# Altium integrated library XMOS xCORE General Purpose.IntLib: 46 symbols (part 2 of 4)
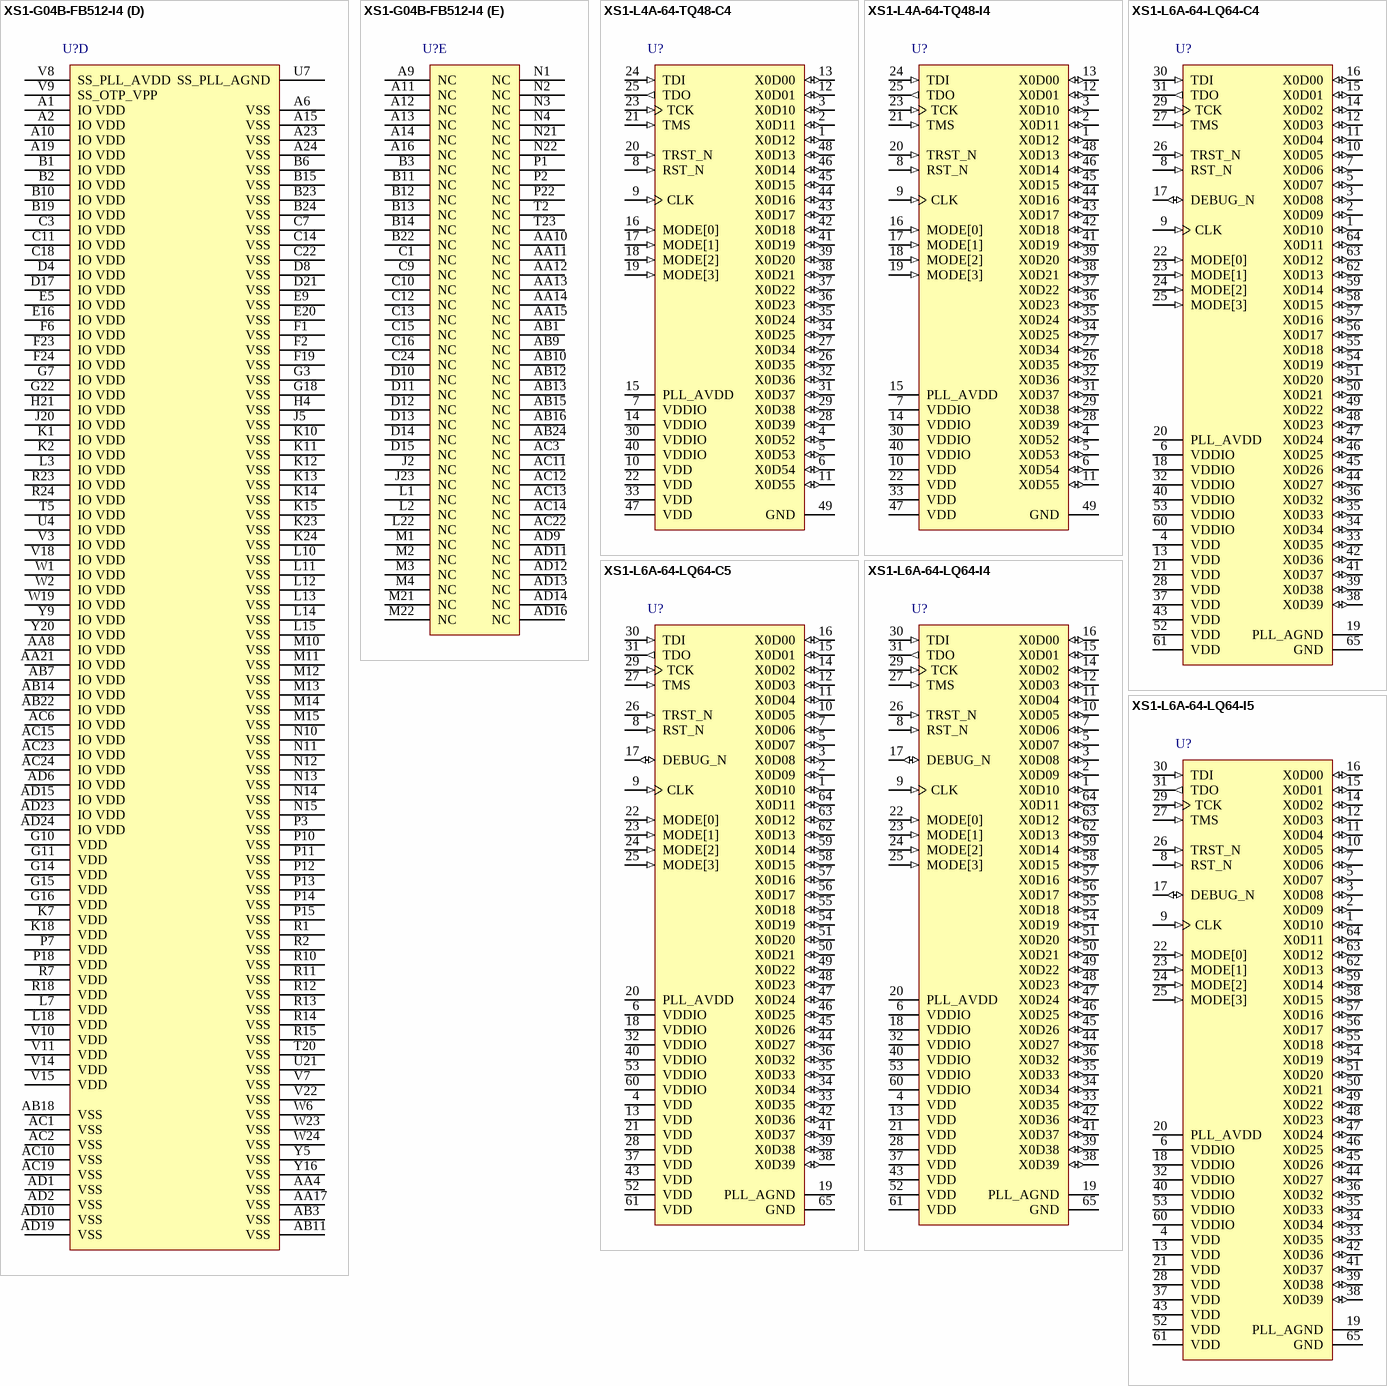
[diagram p11: symbols XS1-G04B-FB512-I4 to XS1-L6A-64-LQ64-I5]

## XS1-L6A-64-LQ64-I5
designator U?
6 Core XS1-L 32-bit Multicore Microcontroller, 36 I/O, -40 to 85 degC, 64-Pin LQFP, Pb-Free, Tray; PartNumber: XS1-L6A-64-LQ64-I5; Cores/Tiles: 6/1; I/O: 36; RAM: 64 kB; Speed Grade: 500 MIPS; DatasheetVersion: Rev. X9194; PackageReference: LQFP-64; PackageDescription: 64-Pin Low Profile Quad Flat Pack, Body 10 x 10 mm, Pitch 0.5 mm; Supplier 1: Digi-Key; Supplier Part Number 1: XS1-L6A-64-LQ64-I5-ND; Packing: Tray; Temperature Range: -40 to 85 degC; Mounting Technology: Surface Mount; Code_JEDEC: MS-026; ComponentLink1Description: Manufacturer URL; ComponentLink1URL: http://www.xmos.com/; ComponentLink2Description: Datasheet; ComponentLink2URL: https://www.xmos.com/zh/download/public/XS1-L6A-64-LQ64-Datasheet%28X9194F%29.pdf; ComponentLink3Description: Package Specification; ComponentLink3URL: https://www.xmos.com/zh/download/public/XS1-L6A-64-LQ64-Datasheet%28X9194F%29.pdf
footprint XMOS-LQFP-64_V (LQFP, 64-Leads, Body 10x10mm, Pitch 0.5mm, Thermal Pad 5.2x5.2mm)
pins: 1 X0D10 (io), 2 X0D09 (io), 3 X0D08 (io), 4 VDD (power) "Digital tile power", 5 X0D07 (io), 6 VDDIO (power) "Digital I/O power", 7 X0D06 (io), 8 RST_N (in) "Global reset input", 9 CLK (in) "PLL reference clock", 10 X0D05 (io), 11 X0D04 (io), 12 X0D03 (io), 13 VDD (power) "Digital tile power", 14 X0D02 (io), 15 X0D01 (io), 16 X0D00 (io), 17 DEBUG_N (io) "Multi-chip debug", 18 VDDIO (power) "Digital I/O power", 19 PLL_AGND (power) "Analog ground for PLL", 20 PLL_AVDD (power) "Analog PLL power", 21 VDD (power) "Digital tile power", 22 MODE[0] (in) "Boot mode select", 23 MODE[1] (in) "Boot mode select", 24 MODE[2] (in) "Boot mode select", 25 MODE[3] (in) "Boot mode select", 26 TRST_N (in) "Test reset input", 27 TMS (in) "Test mode select", 28 VDD (power) "Digital tile power", 29 TCK (in) "Test clock", 30 TDI (in) "Test data input", 31 TDO (out) "Test data output", 32 VDDIO (power) "Digital I/O power", 33 X0D35 (io), 34 X0D34 (io), 35 X0D33 (io), 36 X0D32 (io), 37 VDD (power) "Digital tile power", 38 X0D39 (io), 39 X0D38 (io), 40 VDDIO (power) "Digital I/O power", 41 X0D37 (io), 42 X0D36 (io), 43 VDD (power) "Digital tile power", 44 X0D27 (io), 45 X0D26 (io), 46 X0D25 (io), 47 X0D24 (io), 48 X0D23 (io), 49 X0D22 (io), 50 X0D21 (io), 51 X0D20 (io), 52 VDD (power) "Digital tile power", 53 VDDIO (power) "Digital I/O power", 54 X0D19 (io), 55 X0D18 (io), 56 X0D17 (io), 57 X0D16 (io), 58 X0D15 (io), 59 X0D14 (io), 60 VDDIO (power) "Digital I/O power", 61 VDD (power) "Digital tile power", 62 X0D13 (io), 63 X0D12 (io), 64 X0D11 (io), 65 GND (power) "Digital ground"

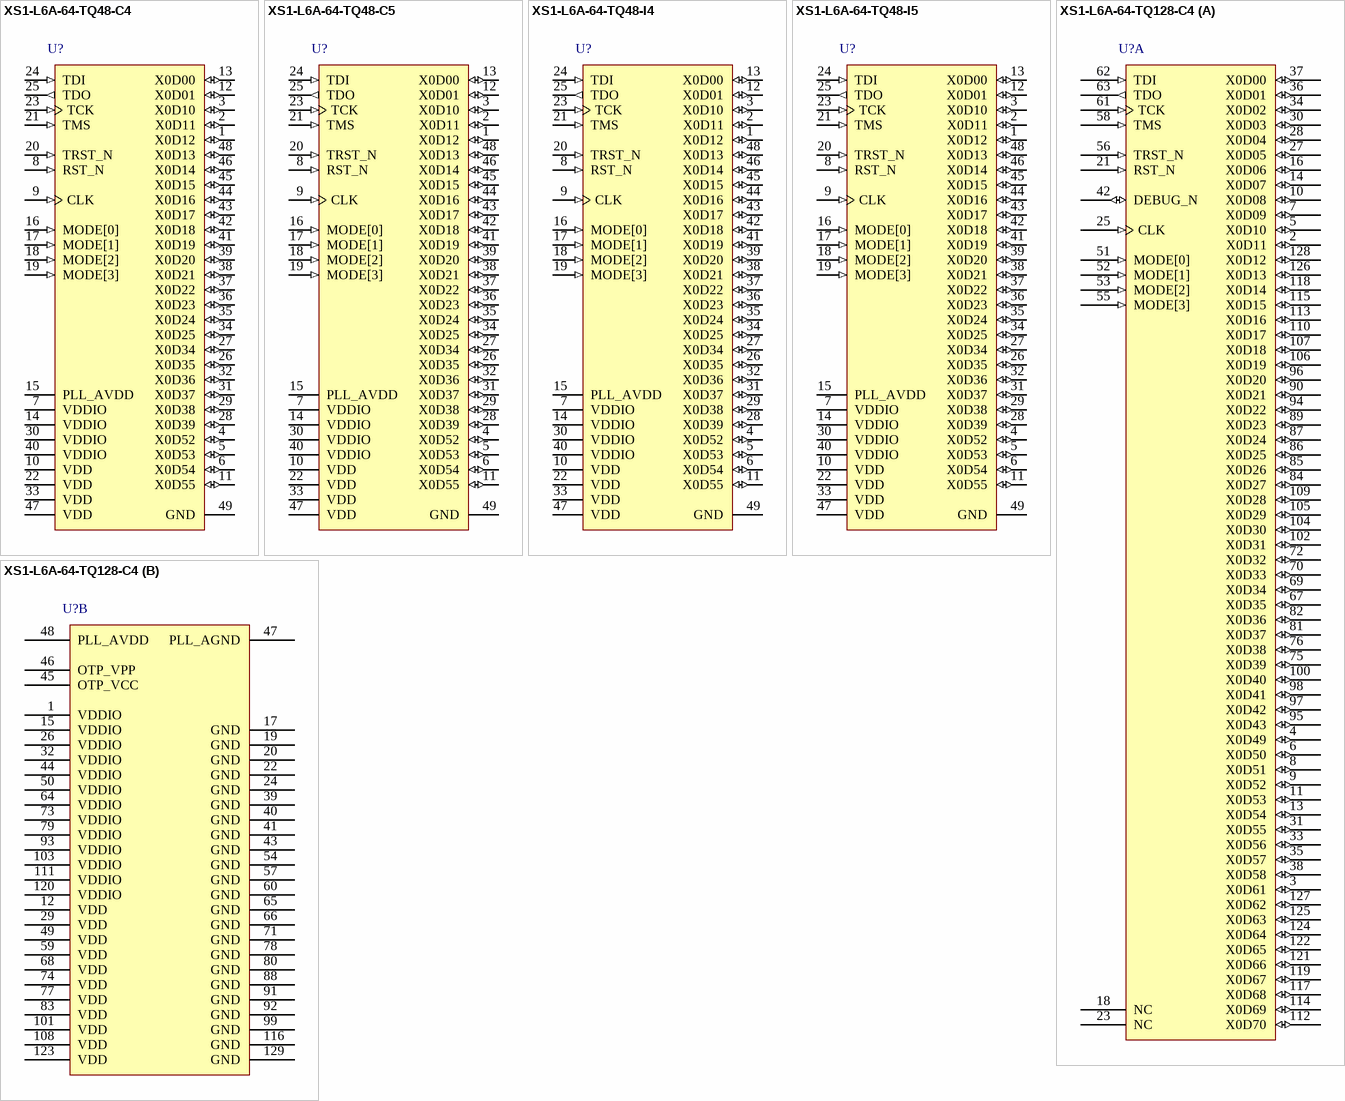
[diagram p3: symbols XS1-L6A-64-TQ48-C4 to XS1-L6A-64-TQ128-C4]

## XS1-L6A-64-TQ48-C4
designator U?
6 Core XS1-L 32-bit Multicore Microcontroller, 28 I/O, 0 to 70 degC, 48-Pin TQFP, Pb-Free, Tray; PartNumber: XS1-L6A-64-TQ48-C4; Cores/Tiles: 6/1; I/O: 28; RAM: 64 kB; Speed Grade: 400 MIPS; DatasheetVersion: Rev. X8938; PackageReference: TQFP-48; PackageDescription: 48-Pin Thin Quad Flat Pack, Body 7 x 7 mm, Pitch 0.5 mm; Supplier 1: Digi-Key; Supplier Part Number 1: 880-1055-ND; Packing: Tray; Temperature Range: 0 to 70 degC; Mounting Technology: Surface Mount; Code_JEDEC: MS-026; ComponentLink1Description: Manufacturer URL; ComponentLink1URL: http://www.xmos.com/; ComponentLink2Description: Datasheet; ComponentLink2URL: https://www.xmos.com/zh/download/public/XS1-L6A-64-TQ48-Datasheet%28X8938F%29.pdf; ComponentLink3Description: Package Specification; ComponentLink3URL: https://www.xmos.com/en/download/public/XS1-L8A-64-TQ48-Datasheet%28X9681G%29.pdf
footprint XMOS-TQFP-48_V (TQFP, 48-Leads, Body 7x7mm, Pitch 0.5mm, Thermal Pad 3.75x3.75mm)
pins: 1 X0D12 (io), 2 X0D11 (io), 3 X0D10 (io), 4 X0D52 (io), 5 X0D53 (io), 6 X0D54 (io), 7 VDDIO (power) "Digital I/O power", 8 RST_N (in) "Global reset input", 9 CLK (in) "PLL reference clock", 10 VDD (power) "Digital tile power", 11 X0D55 (io), 12 X0D01 (io), 13 X0D00 (io), 14 VDDIO (power) "Digital I/O power", 15 PLL_AVDD (power) "Analog PLL power", 16 MODE[0] (in) "Boot mode select", 17 MODE[1] (in) "Boot mode select", 18 MODE[2] (in) "Boot mode select", 19 MODE[3] (in) "Boot mode select", 20 TRST_N (in) "Test reset input", 21 TMS (in) "Test mode select", 22 VDD (power) "Digital tile power", 23 TCK (in) "Test clock", 24 TDI (in) "Test data input", 25 TDO (out) "Test data output", 26 X0D35 (io), 27 X0D34 (io), 28 X0D39 (io), 29 X0D38 (io), 30 VDDIO (power) "Digital I/O power", 31 X0D37 (io), 32 X0D36 (io), 33 VDD (power) "Digital tile power", 34 X0D25 (io), 35 X0D24 (io), 36 X0D23 (io), 37 X0D22 (io), 38 X0D21 (io), 39 X0D20 (io), 40 VDDIO (power) "Digital I/O power", 41 X0D19 (io), 42 X0D18 (io), 43 X0D17 (io), 44 X0D16 (io), 45 X0D15 (io), 46 X0D14 (io), 47 VDD (power) "Digital tile power", 48 X0D13 (io), 49 GND (power) "Digital ground"

## XS1-L6A-64-TQ48-C5
designator U?
6 Core XS1-L 32-bit Multicore Microcontroller, 28 I/O, 0 to 70 degC, 48-Pin TQFP, Pb-Free, Tray; PartNumber: XS1-L6A-64-TQ48-C5; Cores/Tiles: 6/1; I/O: 28; RAM: 64 kB; Speed Grade: 500 MIPS; DatasheetVersion: Rev. X8938; PackageReference: TQFP-48; PackageDescription: 48-Pin Thin Quad Flat Pack, Body 7 x 7 mm, Pitch 0.5 mm; Supplier 1: Digi-Key; Supplier Part Number 1: 880-1058-ND; Packing: Tray; Temperature Range: 0 to 70 degC; Mounting Technology: Surface Mount; Code_JEDEC: MS-026; ComponentLink1Description: Manufacturer URL; ComponentLink1URL: http://www.xmos.com/; ComponentLink2Description: Datasheet; ComponentLink2URL: https://www.xmos.com/zh/download/public/XS1-L6A-64-TQ48-Datasheet%28X8938F%29.pdf; ComponentLink3Description: Package Specification; ComponentLink3URL: https://www.xmos.com/en/download/public/XS1-L8A-64-TQ48-Datasheet%28X9681G%29.pdf
footprint XMOS-TQFP-48_V (TQFP, 48-Leads, Body 7x7mm, Pitch 0.5mm, Thermal Pad 3.75x3.75mm)
pins: 1 X0D12 (io), 2 X0D11 (io), 3 X0D10 (io), 4 X0D52 (io), 5 X0D53 (io), 6 X0D54 (io), 7 VDDIO (power) "Digital I/O power", 8 RST_N (in) "Global reset input", 9 CLK (in) "PLL reference clock", 10 VDD (power) "Digital tile power", 11 X0D55 (io), 12 X0D01 (io), 13 X0D00 (io), 14 VDDIO (power) "Digital I/O power", 15 PLL_AVDD (power) "Analog PLL power", 16 MODE[0] (in) "Boot mode select", 17 MODE[1] (in) "Boot mode select", 18 MODE[2] (in) "Boot mode select", 19 MODE[3] (in) "Boot mode select", 20 TRST_N (in) "Test reset input", 21 TMS (in) "Test mode select", 22 VDD (power) "Digital tile power", 23 TCK (in) "Test clock", 24 TDI (in) "Test data input", 25 TDO (out) "Test data output", 26 X0D35 (io), 27 X0D34 (io), 28 X0D39 (io), 29 X0D38 (io), 30 VDDIO (power) "Digital I/O power", 31 X0D37 (io), 32 X0D36 (io), 33 VDD (power) "Digital tile power", 34 X0D25 (io), 35 X0D24 (io), 36 X0D23 (io), 37 X0D22 (io), 38 X0D21 (io), 39 X0D20 (io), 40 VDDIO (power) "Digital I/O power", 41 X0D19 (io), 42 X0D18 (io), 43 X0D17 (io), 44 X0D16 (io), 45 X0D15 (io), 46 X0D14 (io), 47 VDD (power) "Digital tile power", 48 X0D13 (io), 49 GND (power) "Digital ground"

## XS1-L6A-64-TQ48-I4
designator U?
6 Core XS1-L 32-bit Multicore Microcontroller, 28 I/O, -40 to 85 degC, 48-Pin TQFP, Pb-Free, Tray; PartNumber: XS1-L6A-64-TQ48-I4; Cores/Tiles: 6/1; I/O: 28; RAM: 64 kB; Speed Grade: 400 MIPS; DatasheetVersion: Rev. X8938; PackageReference: TQFP-48; PackageDescription: 48-Pin Thin Quad Flat Pack, Body 7 x 7 mm, Pitch 0.5 mm; Supplier 1: Digi-Key; Supplier Part Number 1: XS1-L6A-64-TQ48-I4-ND; Packing: Tray; Temperature Range: -40 to 85 degC; Mounting Technology: Surface Mount; Code_JEDEC: MS-026; ComponentLink1Description: Manufacturer URL; ComponentLink1URL: http://www.xmos.com/; ComponentLink2Description: Datasheet; ComponentLink2URL: https://www.xmos.com/zh/download/public/XS1-L6A-64-TQ48-Datasheet%28X8938F%29.pdf; ComponentLink3Description: Package Specification; ComponentLink3URL: https://www.xmos.com/en/download/public/XS1-L8A-64-TQ48-Datasheet%28X9681G%29.pdf
footprint XMOS-TQFP-48_V (TQFP, 48-Leads, Body 7x7mm, Pitch 0.5mm, Thermal Pad 3.75x3.75mm)
pins: 1 X0D12 (io), 2 X0D11 (io), 3 X0D10 (io), 4 X0D52 (io), 5 X0D53 (io), 6 X0D54 (io), 7 VDDIO (power) "Digital I/O power", 8 RST_N (in) "Global reset input", 9 CLK (in) "PLL reference clock", 10 VDD (power) "Digital tile power", 11 X0D55 (io), 12 X0D01 (io), 13 X0D00 (io), 14 VDDIO (power) "Digital I/O power", 15 PLL_AVDD (power) "Analog PLL power", 16 MODE[0] (in) "Boot mode select", 17 MODE[1] (in) "Boot mode select", 18 MODE[2] (in) "Boot mode select", 19 MODE[3] (in) "Boot mode select", 20 TRST_N (in) "Test reset input", 21 TMS (in) "Test mode select", 22 VDD (power) "Digital tile power", 23 TCK (in) "Test clock", 24 TDI (in) "Test data input", 25 TDO (out) "Test data output", 26 X0D35 (io), 27 X0D34 (io), 28 X0D39 (io), 29 X0D38 (io), 30 VDDIO (power) "Digital I/O power", 31 X0D37 (io), 32 X0D36 (io), 33 VDD (power) "Digital tile power", 34 X0D25 (io), 35 X0D24 (io), 36 X0D23 (io), 37 X0D22 (io), 38 X0D21 (io), 39 X0D20 (io), 40 VDDIO (power) "Digital I/O power", 41 X0D19 (io), 42 X0D18 (io), 43 X0D17 (io), 44 X0D16 (io), 45 X0D15 (io), 46 X0D14 (io), 47 VDD (power) "Digital tile power", 48 X0D13 (io), 49 GND (power) "Digital ground"

## XS1-L6A-64-TQ48-I5
designator U?
6 Core XS1-L 32-bit Multicore Microcontroller, 28 I/O, -40 to 85 degC, 48-Pin TQFP, Pb-Free, Tray; PartNumber: XS1-L6A-64-TQ48-I5; Cores/Tiles: 6/1; I/O: 28; RAM: 64 kB; Speed Grade: 500 MIPS; DatasheetVersion: Rev. X8938; PackageReference: TQFP-48; PackageDescription: 48-Pin Thin Quad Flat Pack, Body 7 x 7 mm, Pitch 0.5 mm; Supplier 1: Digi-Key; Supplier Part Number 1: XS1-L6A-64-TQ48-I5-ND; Packing: Tray; Temperature Range: -40 to 85 degC; Mounting Technology: Surface Mount; Code_JEDEC: MS-026; ComponentLink1Description: Manufacturer URL; ComponentLink1URL: http://www.xmos.com/; ComponentLink2Description: Datasheet; ComponentLink2URL: https://www.xmos.com/zh/download/public/XS1-L6A-64-TQ48-Datasheet%28X8938F%29.pdf; ComponentLink3Description: Package Specification; ComponentLink3URL: https://www.xmos.com/en/download/public/XS1-L8A-64-TQ48-Datasheet%28X9681G%29.pdf
footprint XMOS-TQFP-48_V (TQFP, 48-Leads, Body 7x7mm, Pitch 0.5mm, Thermal Pad 3.75x3.75mm)
pins: 1 X0D12 (io), 2 X0D11 (io), 3 X0D10 (io), 4 X0D52 (io), 5 X0D53 (io), 6 X0D54 (io), 7 VDDIO (power) "Digital I/O power", 8 RST_N (in) "Global reset input", 9 CLK (in) "PLL reference clock", 10 VDD (power) "Digital tile power", 11 X0D55 (io), 12 X0D01 (io), 13 X0D00 (io), 14 VDDIO (power) "Digital I/O power", 15 PLL_AVDD (power) "Analog PLL power", 16 MODE[0] (in) "Boot mode select", 17 MODE[1] (in) "Boot mode select", 18 MODE[2] (in) "Boot mode select", 19 MODE[3] (in) "Boot mode select", 20 TRST_N (in) "Test reset input", 21 TMS (in) "Test mode select", 22 VDD (power) "Digital tile power", 23 TCK (in) "Test clock", 24 TDI (in) "Test data input", 25 TDO (out) "Test data output", 26 X0D35 (io), 27 X0D34 (io), 28 X0D39 (io), 29 X0D38 (io), 30 VDDIO (power) "Digital I/O power", 31 X0D37 (io), 32 X0D36 (io), 33 VDD (power) "Digital tile power", 34 X0D25 (io), 35 X0D24 (io), 36 X0D23 (io), 37 X0D22 (io), 38 X0D21 (io), 39 X0D20 (io), 40 VDDIO (power) "Digital I/O power", 41 X0D19 (io), 42 X0D18 (io), 43 X0D17 (io), 44 X0D16 (io), 45 X0D15 (io), 46 X0D14 (io), 47 VDD (power) "Digital tile power", 48 X0D13 (io), 49 GND (power) "Digital ground"

## XS1-L6A-64-TQ128-C4
designator U?
6 Core XS1-L 32-bit Multicore Microcontroller, 64 I/O, 0 to 70 degC, 128-Pin TQFP, Pb-Free, Tray; PartNumber: XS1-L6A-64-TQ128-C4; Cores/Tiles: 6/1; I/O: 64; RAM: 64 kB; Speed Grade: 400 MIPS; DatasheetVersion: Rev. X7427; PackageReference: TQFP-128; PackageDescription: 128-Pin Thin Quad Flat Pack, Body 14 x 14 mm, Pitch 0.4 mm; Supplier 1: Digi-Key; Supplier Part Number 1: 880-1052-ND; Packing: Tray; Temperature Range: 0 to 70 degC; Mounting Technology: Surface Mount; ComponentLink1Description: Manufacturer URL; ComponentLink1URL: http://www.xmos.com/; ComponentLink2Description: Datasheet; ComponentLink2URL: https://www.xmos.com/zh/download/public/XS1-L6A-64-TQ128-Datasheet%28X7427G%29.pdf; ComponentLink3Description: Package Specification; ComponentLink3URL: https://www.xmos.com/en/download/public/XS1-L8A-64-TQ128-Datasheet%28X2843H%29.pdf
footprint XMOS-TQFP-128_V (QFP, 128-Leads, Body 14x14mm, Pitch 0.4mm, Thermal Pad 4.8x4.8mm)
part A pins: 2 X0D11 (io), 3 X0D61 (io), 4 X0D49 (io), 5 X0D10 (io), 6 X0D50 (io), 7 X0D09 (io), 8 X0D51 (io), 9 X0D52 (io), 10 X0D08 (io), 11 X0D53 (io), 13 X0D54 (io), 14 X0D07 (io), 16 X0D06 (io), 18 NC, 21 RST_N (in) "Global reset input", 23 NC, 25 CLK (in) "PLL reference clock", 27 X0D05 (io), 28 X0D04 (io), 30 X0D03 (io), 31 X0D55 (io), 33 X0D56 (io), 34 X0D02 (io), 35 X0D57 (io), 36 X0D01 (io), 37 X0D00 (io), 38 X0D58 (io), 42 DEBUG_N (io) "Multi-chip debug", 51 MODE[0] (in) "Boot mode select", 52 MODE[1] (in) "Boot mode select", 53 MODE[2] (in) "Boot mode select", 55 MODE[3] (in) "Boot mode select", 56 TRST_N (in) "Test reset input", 58 TMS (in) "Test mode select", 61 TCK (in) "Test clock", 62 TDI (in) "Test data input", 63 TDO (out) "Test data output", 67 X0D35 (io), 69 X0D34 (io), 70 X0D33 (io), 72 X0D32 (io), 75 X0D39 (io), 76 X0D38 (io), 81 X0D37 (io), 82 X0D36 (io), 84 X0D27 (io), 85 X0D26 (io), 86 X0D25 (io), 87 X0D24 (io), 89 X0D23 (io), 90 X0D21 (io), 94 X0D22 (io), 95 X0D43 (io), 96 X0D20 (io), 97 X0D42 (io), 98 X0D41 (io), 100 X0D40 (io), 102 X0D31 (io), 104 X0D30 (io), 105 X0D29 (io), 106 X0D19 (io), 107 X0D18 (io), 109 X0D28 (io), 110 X0D17 (io), 112 X0D70 (io), 113 X0D16 (io), 114 X0D69 (io), 115 X0D15 (io), 117 X0D68 (io), 118 X0D14 (io), 119 X0D67 (io), 121 X0D66 (io), 122 X0D65 (io), 124 X0D64 (io), 125 X0D63 (io), 126 X0D13 (io), 127 X0D62 (io), 128 X0D12 (io)
part B pins: 1 VDDIO (power) "Digital I/O power", 12 VDD (power) "Digital tile power", 15 VDDIO (power) "Digital I/O power", 17 GND (power) "Digital ground", 19 GND (power) "Digital ground", 20 GND (power) "Digital ground", 22 GND (power) "Digital ground", 24 GND (power) "Digital ground", 26 VDDIO (power) "Digital I/O power", 29 VDD (power) "Digital tile power", 32 VDDIO (power) "Digital I/O power", 39 GND (power) "Digital ground", 40 GND (power) "Digital ground", 41 GND (power) "Digital ground", 43 GND (power) "Digital ground", 44 VDDIO (power) "Digital I/O power", 45 OTP_VCC (power) "OTP power supply", 46 OTP_VPP (power) "OTP programming voltage", 47 PLL_AGND (power) "Analog ground for PLL", 48 PLL_AVDD (power) "Analog PLL power", 49 VDD (power) "Digital tile power", 50 VDDIO (power) "Digital I/O power", 54 GND (power) "Digital ground", 57 GND (power) "Digital ground", 59 VDD (power) "Digital tile power", 60 GND (power) "Digital ground", 64 VDDIO (power) "Digital I/O power", 65 GND (power) "Digital ground", 66 GND (power) "Digital ground", 68 VDD (power) "Digital tile power", 71 GND (power) "Digital ground", 73 VDDIO (power) "Digital I/O power", 74 VDD (power) "Digital tile power", 77 VDD (power) "Digital tile power", 78 GND (power) "Digital ground", 79 VDDIO (power) "Digital I/O power", 80 GND (power) "Digital ground", 83 VDD (power) "Digital tile power", 88 GND (power) "Digital ground", 91 GND (power) "Digital ground", 92 GND (power) "Digital ground", 93 VDDIO (power) "Digital I/O power", 99 GND (power) "Digital ground", 101 VDD (power) "Digital tile power", 103 VDDIO (power) "Digital I/O power", 108 VDD (power) "Digital tile power", 111 VDDIO (power) "Digital I/O power", 116 GND (power) "Digital ground", 120 VDDIO (power) "Digital I/O power", 123 VDD (power) "Digital tile power", 129 GND (power) "Digital ground"

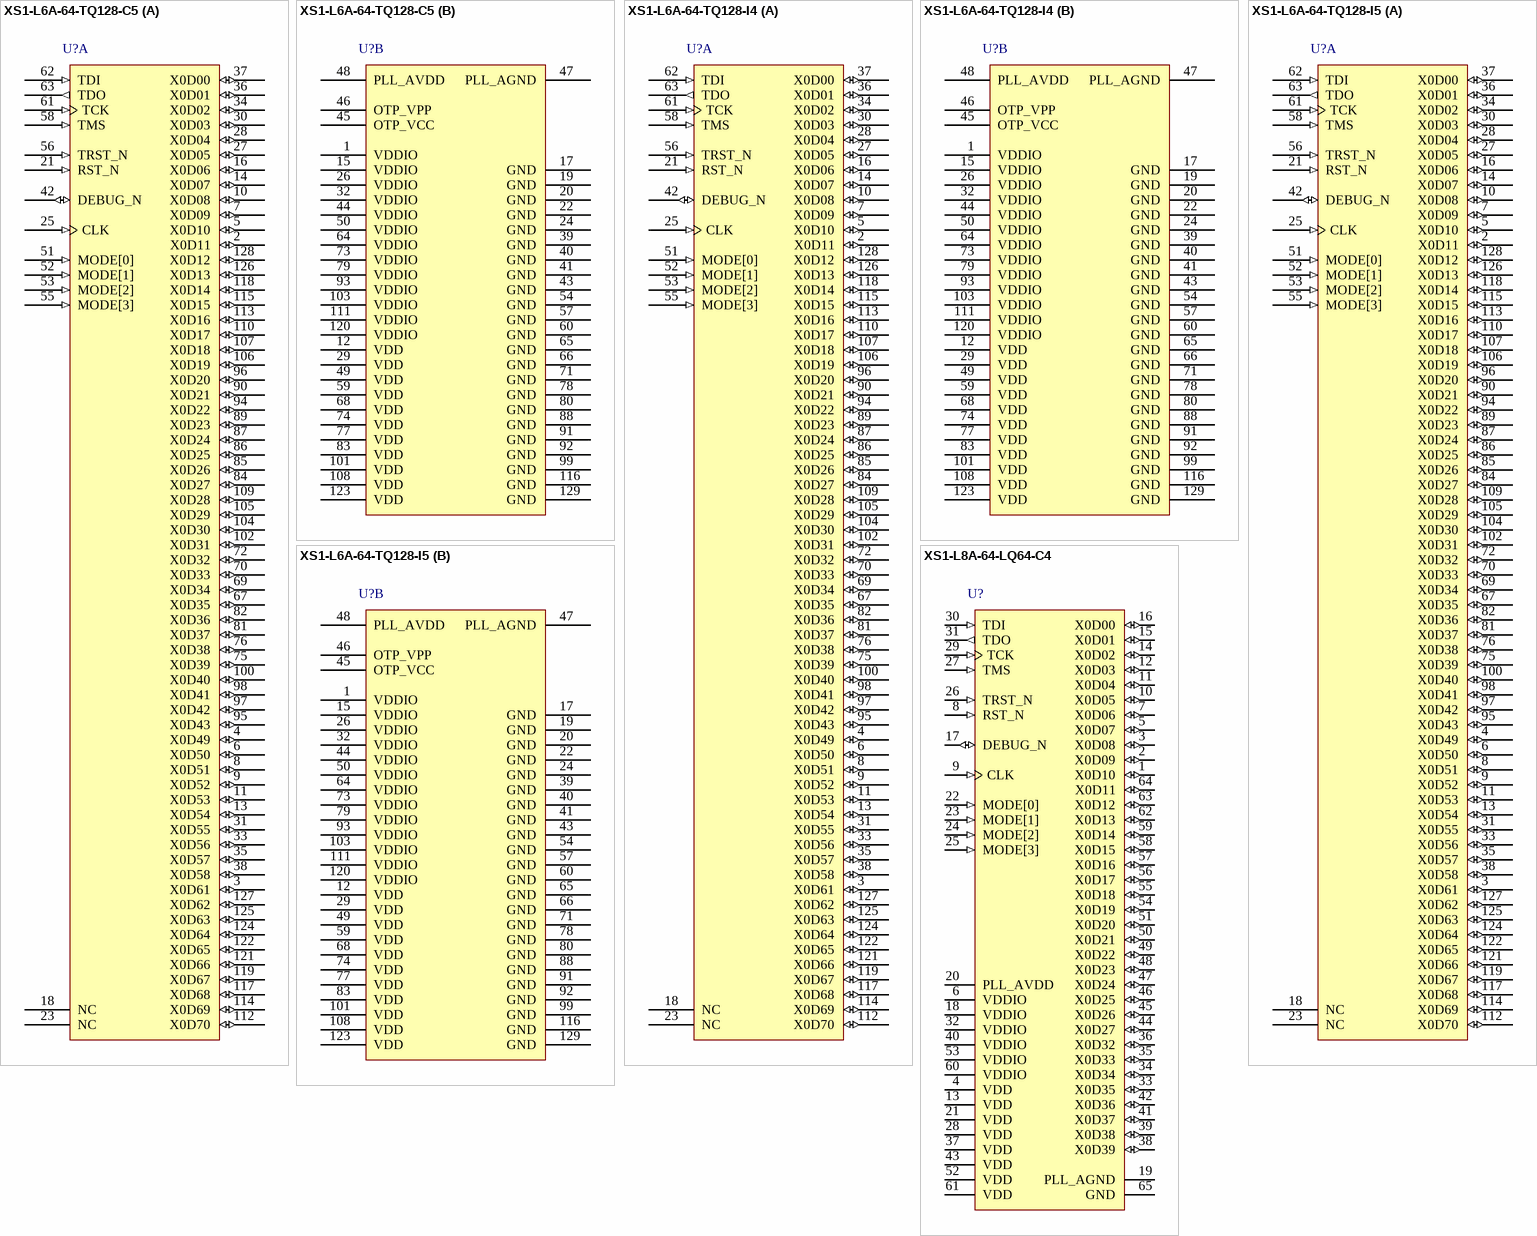
[diagram p4: symbols XS1-L6A-64-TQ128-C5 to XS1-L8A-64-LQ64-C4]

## XS1-L6A-64-TQ128-C5
designator U?
6 Core XS1-L 32-bit Multicore Microcontroller, 64 I/O, 0 to 70 degC, 128-Pin TQFP, Pb-Free, Tray; PartNumber: XS1-L6A-64-TQ128-C5; Cores/Tiles: 6/1; I/O: 64; RAM: 64 kB; Speed Grade: 500 MIPS; DatasheetVersion: Rev. X7427; PackageReference: TQFP-128; PackageDescription: 128-Pin Thin Quad Flat Pack, Body 14 x 14 mm, Pitch 0.4 mm; Supplier 1: Digi-Key; Supplier Part Number 1: 880-1056-ND; Packing: Tray; Temperature Range: 0 to 70 degC; Mounting Technology: Surface Mount; ComponentLink1Description: Manufacturer URL; ComponentLink1URL: http://www.xmos.com/; ComponentLink2Description: Datasheet; ComponentLink2URL: https://www.xmos.com/zh/download/public/XS1-L6A-64-TQ128-Datasheet%28X7427G%29.pdf; ComponentLink3Description: Package Specification; ComponentLink3URL: https://www.xmos.com/en/download/public/XS1-L8A-64-TQ128-Datasheet%28X2843H%29.pdf
footprint XMOS-TQFP-128_V (QFP, 128-Leads, Body 14x14mm, Pitch 0.4mm, Thermal Pad 4.8x4.8mm)
part A pins: 2 X0D11 (io), 3 X0D61 (io), 4 X0D49 (io), 5 X0D10 (io), 6 X0D50 (io), 7 X0D09 (io), 8 X0D51 (io), 9 X0D52 (io), 10 X0D08 (io), 11 X0D53 (io), 13 X0D54 (io), 14 X0D07 (io), 16 X0D06 (io), 18 NC, 21 RST_N (in) "Global reset input", 23 NC, 25 CLK (in) "PLL reference clock", 27 X0D05 (io), 28 X0D04 (io), 30 X0D03 (io), 31 X0D55 (io), 33 X0D56 (io), 34 X0D02 (io), 35 X0D57 (io), 36 X0D01 (io), 37 X0D00 (io), 38 X0D58 (io), 42 DEBUG_N (io) "Multi-chip debug", 51 MODE[0] (in) "Boot mode select", 52 MODE[1] (in) "Boot mode select", 53 MODE[2] (in) "Boot mode select", 55 MODE[3] (in) "Boot mode select", 56 TRST_N (in) "Test reset input", 58 TMS (in) "Test mode select", 61 TCK (in) "Test clock", 62 TDI (in) "Test data input", 63 TDO (out) "Test data output", 67 X0D35 (io), 69 X0D34 (io), 70 X0D33 (io), 72 X0D32 (io), 75 X0D39 (io), 76 X0D38 (io), 81 X0D37 (io), 82 X0D36 (io), 84 X0D27 (io), 85 X0D26 (io), 86 X0D25 (io), 87 X0D24 (io), 89 X0D23 (io), 90 X0D21 (io), 94 X0D22 (io), 95 X0D43 (io), 96 X0D20 (io), 97 X0D42 (io), 98 X0D41 (io), 100 X0D40 (io), 102 X0D31 (io), 104 X0D30 (io), 105 X0D29 (io), 106 X0D19 (io), 107 X0D18 (io), 109 X0D28 (io), 110 X0D17 (io), 112 X0D70 (io), 113 X0D16 (io), 114 X0D69 (io), 115 X0D15 (io), 117 X0D68 (io), 118 X0D14 (io), 119 X0D67 (io), 121 X0D66 (io), 122 X0D65 (io), 124 X0D64 (io), 125 X0D63 (io), 126 X0D13 (io), 127 X0D62 (io), 128 X0D12 (io)
part B pins: 1 VDDIO (power) "Digital I/O power", 12 VDD (power) "Digital tile power", 15 VDDIO (power) "Digital I/O power", 17 GND (power) "Digital ground", 19 GND (power) "Digital ground", 20 GND (power) "Digital ground", 22 GND (power) "Digital ground", 24 GND (power) "Digital ground", 26 VDDIO (power) "Digital I/O power", 29 VDD (power) "Digital tile power", 32 VDDIO (power) "Digital I/O power", 39 GND (power) "Digital ground", 40 GND (power) "Digital ground", 41 GND (power) "Digital ground", 43 GND (power) "Digital ground", 44 VDDIO (power) "Digital I/O power", 45 OTP_VCC (power) "OTP power supply", 46 OTP_VPP (power) "OTP programming voltage", 47 PLL_AGND (power) "Analog ground for PLL", 48 PLL_AVDD (power) "Analog PLL power", 49 VDD (power) "Digital tile power", 50 VDDIO (power) "Digital I/O power", 54 GND (power) "Digital ground", 57 GND (power) "Digital ground", 59 VDD (power) "Digital tile power", 60 GND (power) "Digital ground", 64 VDDIO (power) "Digital I/O power", 65 GND (power) "Digital ground", 66 GND (power) "Digital ground", 68 VDD (power) "Digital tile power", 71 GND (power) "Digital ground", 73 VDDIO (power) "Digital I/O power", 74 VDD (power) "Digital tile power", 77 VDD (power) "Digital tile power", 78 GND (power) "Digital ground", 79 VDDIO (power) "Digital I/O power", 80 GND (power) "Digital ground", 83 VDD (power) "Digital tile power", 88 GND (power) "Digital ground", 91 GND (power) "Digital ground", 92 GND (power) "Digital ground", 93 VDDIO (power) "Digital I/O power", 99 GND (power) "Digital ground", 101 VDD (power) "Digital tile power", 103 VDDIO (power) "Digital I/O power", 108 VDD (power) "Digital tile power", 111 VDDIO (power) "Digital I/O power", 116 GND (power) "Digital ground", 120 VDDIO (power) "Digital I/O power", 123 VDD (power) "Digital tile power", 129 GND (power) "Digital ground"

## XS1-L6A-64-TQ128-I4
designator U?
6 Core XS1-L 32-bit Multicore Microcontroller, 64 I/O, -40 to 85 degC, 128-Pin TQFP, Pb-Free, Tray; PartNumber: XS1-L6A-64-TQ128-I4; Cores/Tiles: 6/1; I/O: 64; RAM: 64 kB; Speed Grade: 400 MIPS; DatasheetVersion: Rev. X7427; PackageReference: TQFP-128; PackageDescription: 128-Pin Thin Quad Flat Pack, Body 14 x 14 mm, Pitch 0.4 mm; Supplier 1: Digi-Key; Supplier Part Number 1: XS1-L6A-64-TQ128-I4-ND; Packing: Tray; Temperature Range: -40 to 85 degC; Mounting Technology: Surface Mount; ComponentLink1Description: Manufacturer URL; ComponentLink1URL: http://www.xmos.com/; ComponentLink2Description: Datasheet; ComponentLink2URL: https://www.xmos.com/zh/download/public/XS1-L6A-64-TQ128-Datasheet%28X7427G%29.pdf; ComponentLink3Description: Package Specification; ComponentLink3URL: https://www.xmos.com/en/download/public/XS1-L8A-64-TQ128-Datasheet%28X2843H%29.pdf
footprint XMOS-TQFP-128_V (QFP, 128-Leads, Body 14x14mm, Pitch 0.4mm, Thermal Pad 4.8x4.8mm)
part A pins: 2 X0D11 (io), 3 X0D61 (io), 4 X0D49 (io), 5 X0D10 (io), 6 X0D50 (io), 7 X0D09 (io), 8 X0D51 (io), 9 X0D52 (io), 10 X0D08 (io), 11 X0D53 (io), 13 X0D54 (io), 14 X0D07 (io), 16 X0D06 (io), 18 NC, 21 RST_N (in) "Global reset input", 23 NC, 25 CLK (in) "PLL reference clock", 27 X0D05 (io), 28 X0D04 (io), 30 X0D03 (io), 31 X0D55 (io), 33 X0D56 (io), 34 X0D02 (io), 35 X0D57 (io), 36 X0D01 (io), 37 X0D00 (io), 38 X0D58 (io), 42 DEBUG_N (io) "Multi-chip debug", 51 MODE[0] (in) "Boot mode select", 52 MODE[1] (in) "Boot mode select", 53 MODE[2] (in) "Boot mode select", 55 MODE[3] (in) "Boot mode select", 56 TRST_N (in) "Test reset input", 58 TMS (in) "Test mode select", 61 TCK (in) "Test clock", 62 TDI (in) "Test data input", 63 TDO (out) "Test data output", 67 X0D35 (io), 69 X0D34 (io), 70 X0D33 (io), 72 X0D32 (io), 75 X0D39 (io), 76 X0D38 (io), 81 X0D37 (io), 82 X0D36 (io), 84 X0D27 (io), 85 X0D26 (io), 86 X0D25 (io), 87 X0D24 (io), 89 X0D23 (io), 90 X0D21 (io), 94 X0D22 (io), 95 X0D43 (io), 96 X0D20 (io), 97 X0D42 (io), 98 X0D41 (io), 100 X0D40 (io), 102 X0D31 (io), 104 X0D30 (io), 105 X0D29 (io), 106 X0D19 (io), 107 X0D18 (io), 109 X0D28 (io), 110 X0D17 (io), 112 X0D70 (io), 113 X0D16 (io), 114 X0D69 (io), 115 X0D15 (io), 117 X0D68 (io), 118 X0D14 (io), 119 X0D67 (io), 121 X0D66 (io), 122 X0D65 (io), 124 X0D64 (io), 125 X0D63 (io), 126 X0D13 (io), 127 X0D62 (io), 128 X0D12 (io)
part B pins: 1 VDDIO (power) "Digital I/O power", 12 VDD (power) "Digital tile power", 15 VDDIO (power) "Digital I/O power", 17 GND (power) "Digital ground", 19 GND (power) "Digital ground", 20 GND (power) "Digital ground", 22 GND (power) "Digital ground", 24 GND (power) "Digital ground", 26 VDDIO (power) "Digital I/O power", 29 VDD (power) "Digital tile power", 32 VDDIO (power) "Digital I/O power", 39 GND (power) "Digital ground", 40 GND (power) "Digital ground", 41 GND (power) "Digital ground", 43 GND (power) "Digital ground", 44 VDDIO (power) "Digital I/O power", 45 OTP_VCC (power) "OTP power supply", 46 OTP_VPP (power) "OTP programming voltage", 47 PLL_AGND (power) "Analog ground for PLL", 48 PLL_AVDD (power) "Analog PLL power", 49 VDD (power) "Digital tile power", 50 VDDIO (power) "Digital I/O power", 54 GND (power) "Digital ground", 57 GND (power) "Digital ground", 59 VDD (power) "Digital tile power", 60 GND (power) "Digital ground", 64 VDDIO (power) "Digital I/O power", 65 GND (power) "Digital ground", 66 GND (power) "Digital ground", 68 VDD (power) "Digital tile power", 71 GND (power) "Digital ground", 73 VDDIO (power) "Digital I/O power", 74 VDD (power) "Digital tile power", 77 VDD (power) "Digital tile power", 78 GND (power) "Digital ground", 79 VDDIO (power) "Digital I/O power", 80 GND (power) "Digital ground", 83 VDD (power) "Digital tile power", 88 GND (power) "Digital ground", 91 GND (power) "Digital ground", 92 GND (power) "Digital ground", 93 VDDIO (power) "Digital I/O power", 99 GND (power) "Digital ground", 101 VDD (power) "Digital tile power", 103 VDDIO (power) "Digital I/O power", 108 VDD (power) "Digital tile power", 111 VDDIO (power) "Digital I/O power", 116 GND (power) "Digital ground", 120 VDDIO (power) "Digital I/O power", 123 VDD (power) "Digital tile power", 129 GND (power) "Digital ground"

## XS1-L6A-64-TQ128-I5
designator U?
6 Core XS1-L 32-bit Multicore Microcontroller, 64 I/O, -40 to 85 degC, 128-Pin TQFP, Pb-Free, Tray; PartNumber: XS1-L6A-64-TQ128-I5; Cores/Tiles: 6/1; I/O: 64; RAM: 64 kB; Speed Grade: 500 MIPS; DatasheetVersion: Rev. X7427; PackageReference: TQFP-128; PackageDescription: 128-Pin Thin Quad Flat Pack, Body 14 x 14 mm, Pitch 0.4 mm; Supplier 1: Digi-Key; Supplier Part Number 1: XS1-L6A-64-TQ128-I5-ND; Packing: Tray; Temperature Range: -40 to 85 degC; Mounting Technology: Surface Mount; ComponentLink1Description: Manufacturer URL; ComponentLink1URL: http://www.xmos.com/; ComponentLink2Description: Datasheet; ComponentLink2URL: https://www.xmos.com/zh/download/public/XS1-L6A-64-TQ128-Datasheet%28X7427G%29.pdf; ComponentLink3Description: Package Specification; ComponentLink3URL: https://www.xmos.com/en/download/public/XS1-L8A-64-TQ128-Datasheet%28X2843H%29.pdf
footprint XMOS-TQFP-128_V (QFP, 128-Leads, Body 14x14mm, Pitch 0.4mm, Thermal Pad 4.8x4.8mm)
part A pins: 2 X0D11 (io), 3 X0D61 (io), 4 X0D49 (io), 5 X0D10 (io), 6 X0D50 (io), 7 X0D09 (io), 8 X0D51 (io), 9 X0D52 (io), 10 X0D08 (io), 11 X0D53 (io), 13 X0D54 (io), 14 X0D07 (io), 16 X0D06 (io), 18 NC, 21 RST_N (in) "Global reset input", 23 NC, 25 CLK (in) "PLL reference clock", 27 X0D05 (io), 28 X0D04 (io), 30 X0D03 (io), 31 X0D55 (io), 33 X0D56 (io), 34 X0D02 (io), 35 X0D57 (io), 36 X0D01 (io), 37 X0D00 (io), 38 X0D58 (io), 42 DEBUG_N (io) "Multi-chip debug", 51 MODE[0] (in) "Boot mode select", 52 MODE[1] (in) "Boot mode select", 53 MODE[2] (in) "Boot mode select", 55 MODE[3] (in) "Boot mode select", 56 TRST_N (in) "Test reset input", 58 TMS (in) "Test mode select", 61 TCK (in) "Test clock", 62 TDI (in) "Test data input", 63 TDO (out) "Test data output", 67 X0D35 (io), 69 X0D34 (io), 70 X0D33 (io), 72 X0D32 (io), 75 X0D39 (io), 76 X0D38 (io), 81 X0D37 (io), 82 X0D36 (io), 84 X0D27 (io), 85 X0D26 (io), 86 X0D25 (io), 87 X0D24 (io), 89 X0D23 (io), 90 X0D21 (io), 94 X0D22 (io), 95 X0D43 (io), 96 X0D20 (io), 97 X0D42 (io), 98 X0D41 (io), 100 X0D40 (io), 102 X0D31 (io), 104 X0D30 (io), 105 X0D29 (io), 106 X0D19 (io), 107 X0D18 (io), 109 X0D28 (io), 110 X0D17 (io), 112 X0D70 (io), 113 X0D16 (io), 114 X0D69 (io), 115 X0D15 (io), 117 X0D68 (io), 118 X0D14 (io), 119 X0D67 (io), 121 X0D66 (io), 122 X0D65 (io), 124 X0D64 (io), 125 X0D63 (io), 126 X0D13 (io), 127 X0D62 (io), 128 X0D12 (io)
part B pins: 1 VDDIO (power) "Digital I/O power", 12 VDD (power) "Digital tile power", 15 VDDIO (power) "Digital I/O power", 17 GND (power) "Digital ground", 19 GND (power) "Digital ground", 20 GND (power) "Digital ground", 22 GND (power) "Digital ground", 24 GND (power) "Digital ground", 26 VDDIO (power) "Digital I/O power", 29 VDD (power) "Digital tile power", 32 VDDIO (power) "Digital I/O power", 39 GND (power) "Digital ground", 40 GND (power) "Digital ground", 41 GND (power) "Digital ground", 43 GND (power) "Digital ground", 44 VDDIO (power) "Digital I/O power", 45 OTP_VCC (power) "OTP power supply", 46 OTP_VPP (power) "OTP programming voltage", 47 PLL_AGND (power) "Analog ground for PLL", 48 PLL_AVDD (power) "Analog PLL power", 49 VDD (power) "Digital tile power", 50 VDDIO (power) "Digital I/O power", 54 GND (power) "Digital ground", 57 GND (power) "Digital ground", 59 VDD (power) "Digital tile power", 60 GND (power) "Digital ground", 64 VDDIO (power) "Digital I/O power", 65 GND (power) "Digital ground", 66 GND (power) "Digital ground", 68 VDD (power) "Digital tile power", 71 GND (power) "Digital ground", 73 VDDIO (power) "Digital I/O power", 74 VDD (power) "Digital tile power", 77 VDD (power) "Digital tile power", 78 GND (power) "Digital ground", 79 VDDIO (power) "Digital I/O power", 80 GND (power) "Digital ground", 83 VDD (power) "Digital tile power", 88 GND (power) "Digital ground", 91 GND (power) "Digital ground", 92 GND (power) "Digital ground", 93 VDDIO (power) "Digital I/O power", 99 GND (power) "Digital ground", 101 VDD (power) "Digital tile power", 103 VDDIO (power) "Digital I/O power", 108 VDD (power) "Digital tile power", 111 VDDIO (power) "Digital I/O power", 116 GND (power) "Digital ground", 120 VDDIO (power) "Digital I/O power", 123 VDD (power) "Digital tile power", 129 GND (power) "Digital ground"

## XS1-L8A-64-LQ64-C4
designator U?
8 Core XS1-L 32-bit Multicore Microcontroller, 36 I/O, 0 to 70 degC, 64-Pin LQFP, Pb-Free, Tray; PartNumber: XS1-L8A-64-LQ64-C4; Cores/Tiles: 8/1; I/O: 36; RAM: 64 kB; Speed Grade: 400 MIPS; DatasheetVersion: Rev. X4912; PackageReference: LQFP-64; PackageDescription: 64-Pin Low Profile Quad Flat Pack, Body 10 x 10 mm, Pitch 0.5 mm; Supplier 1: Digi-Key; Supplier Part Number 1: 880-1000-ND; Packing: Tray; Temperature Range: 0 to 70 degC; Mounting Technology: Surface Mount; Code_JEDEC: MS-026; ComponentLink1Description: Manufacturer URL; ComponentLink1URL: http://www.xmos.com/; ComponentLink2Description: Datasheet; ComponentLink2URL: https://www.xmos.com/en/download/public/XS1-L8A-64-LQ64-Datasheet%28X4912G%29.pdf; ComponentLink3Description: Package Specification; ComponentLink3URL: https://www.xmos.com/zh/download/public/XS1-L6A-64-LQ64-Datasheet%28X9194F%29.pdf
footprint XMOS-LQFP-64_V (LQFP, 64-Leads, Body 10x10mm, Pitch 0.5mm, Thermal Pad 5.2x5.2mm)
pins: 1 X0D10 (io), 2 X0D09 (io), 3 X0D08 (io), 4 VDD (power) "Digital tile power", 5 X0D07 (io), 6 VDDIO (power) "Digital I/O power", 7 X0D06 (io), 8 RST_N (in) "Global reset input", 9 CLK (in) "PLL reference clock", 10 X0D05 (io), 11 X0D04 (io), 12 X0D03 (io), 13 VDD (power) "Digital tile power", 14 X0D02 (io), 15 X0D01 (io), 16 X0D00 (io), 17 DEBUG_N (io) "Multi-chip debug", 18 VDDIO (power) "Digital I/O power", 19 PLL_AGND (power) "Analog ground for PLL", 20 PLL_AVDD (power) "Analog PLL power", 21 VDD (power) "Digital tile power", 22 MODE[0] (in) "Boot mode select", 23 MODE[1] (in) "Boot mode select", 24 MODE[2] (in) "Boot mode select", 25 MODE[3] (in) "Boot mode select", 26 TRST_N (in) "Test reset input", 27 TMS (in) "Test mode select", 28 VDD (power) "Digital tile power", 29 TCK (in) "Test clock", 30 TDI (in) "Test data input", 31 TDO (out) "Test data output", 32 VDDIO (power) "Digital I/O power", 33 X0D35 (io), 34 X0D34 (io), 35 X0D33 (io), 36 X0D32 (io), 37 VDD (power) "Digital tile power", 38 X0D39 (io), 39 X0D38 (io), 40 VDDIO (power) "Digital I/O power", 41 X0D37 (io), 42 X0D36 (io), 43 VDD (power) "Digital tile power", 44 X0D27 (io), 45 X0D26 (io), 46 X0D25 (io), 47 X0D24 (io), 48 X0D23 (io), 49 X0D22 (io), 50 X0D21 (io), 51 X0D20 (io), 52 VDD (power) "Digital tile power", 53 VDDIO (power) "Digital I/O power", 54 X0D19 (io), 55 X0D18 (io), 56 X0D17 (io), 57 X0D16 (io), 58 X0D15 (io), 59 X0D14 (io), 60 VDDIO (power) "Digital I/O power", 61 VDD (power) "Digital tile power", 62 X0D13 (io), 63 X0D12 (io), 64 X0D11 (io), 65 GND (power) "Digital ground"

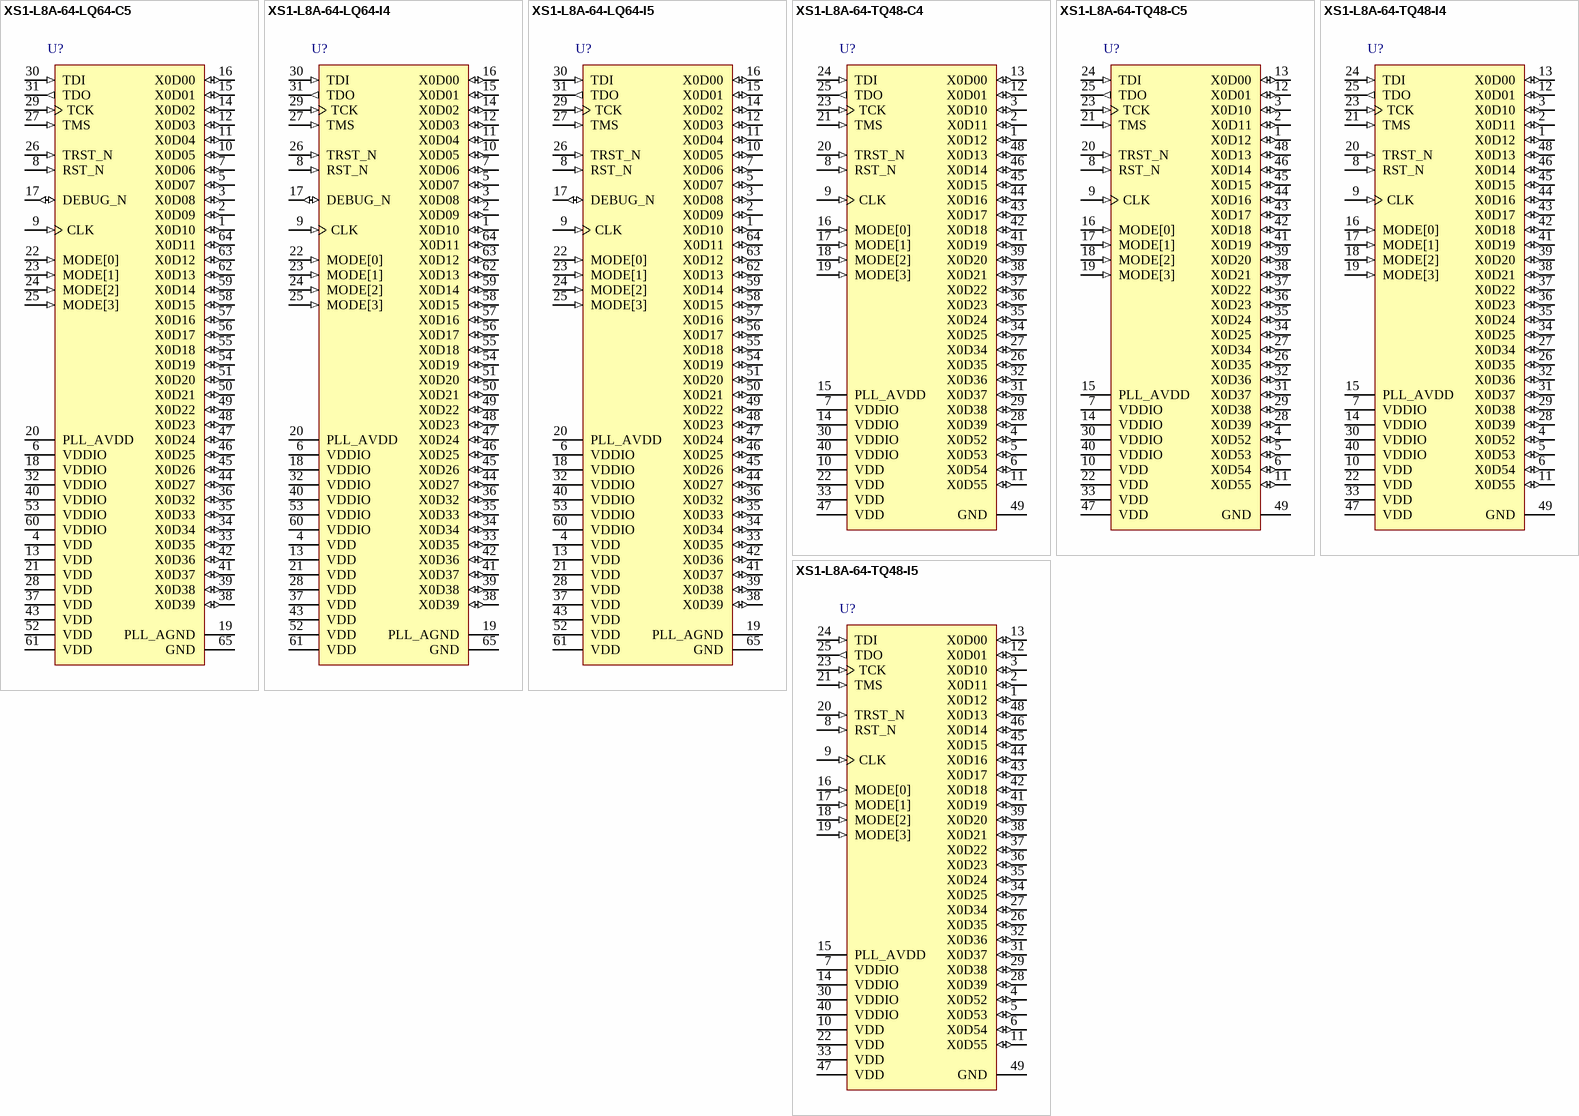
[diagram p5: symbols XS1-L8A-64-LQ64-C5 to XS1-L8A-64-TQ48-I5]

## XS1-L8A-64-LQ64-C5
designator U?
8 Core XS1-L 32-bit Multicore Microcontroller, 36 I/O, 0 to 70 degC, 64-Pin LQFP, Pb-Free, Tray; PartNumber: XS1-L8A-64-LQ64-C5; Cores/Tiles: 8/1; I/O: 36; RAM: 64 kB; Speed Grade: 500 MIPS; DatasheetVersion: Rev. X4912; PackageReference: LQFP-64; PackageDescription: 64-Pin Low Profile Quad Flat Pack, Body 10 x 10 mm, Pitch 0.5 mm; Supplier 1: Digi-Key; Supplier Part Number 1: 880-1032-ND; Packing: Tray; Temperature Range: 0 to 70 degC; Mounting Technology: Surface Mount; Code_JEDEC: MS-026; ComponentLink1Description: Manufacturer URL; ComponentLink1URL: http://www.xmos.com/; ComponentLink2Description: Datasheet; ComponentLink2URL: https://www.xmos.com/en/download/public/XS1-L8A-64-LQ64-Datasheet%28X4912G%29.pdf; ComponentLink3Description: Package Specification; ComponentLink3URL: https://www.xmos.com/zh/download/public/XS1-L6A-64-LQ64-Datasheet%28X9194F%29.pdf
footprint XMOS-LQFP-64_V (LQFP, 64-Leads, Body 10x10mm, Pitch 0.5mm, Thermal Pad 5.2x5.2mm)
pins: 1 X0D10 (io), 2 X0D09 (io), 3 X0D08 (io), 4 VDD (power) "Digital tile power", 5 X0D07 (io), 6 VDDIO (power) "Digital I/O power", 7 X0D06 (io), 8 RST_N (in) "Global reset input", 9 CLK (in) "PLL reference clock", 10 X0D05 (io), 11 X0D04 (io), 12 X0D03 (io), 13 VDD (power) "Digital tile power", 14 X0D02 (io), 15 X0D01 (io), 16 X0D00 (io), 17 DEBUG_N (io) "Multi-chip debug", 18 VDDIO (power) "Digital I/O power", 19 PLL_AGND (power) "Analog ground for PLL", 20 PLL_AVDD (power) "Analog PLL power", 21 VDD (power) "Digital tile power", 22 MODE[0] (in) "Boot mode select", 23 MODE[1] (in) "Boot mode select", 24 MODE[2] (in) "Boot mode select", 25 MODE[3] (in) "Boot mode select", 26 TRST_N (in) "Test reset input", 27 TMS (in) "Test mode select", 28 VDD (power) "Digital tile power", 29 TCK (in) "Test clock", 30 TDI (in) "Test data input", 31 TDO (out) "Test data output", 32 VDDIO (power) "Digital I/O power", 33 X0D35 (io), 34 X0D34 (io), 35 X0D33 (io), 36 X0D32 (io), 37 VDD (power) "Digital tile power", 38 X0D39 (io), 39 X0D38 (io), 40 VDDIO (power) "Digital I/O power", 41 X0D37 (io), 42 X0D36 (io), 43 VDD (power) "Digital tile power", 44 X0D27 (io), 45 X0D26 (io), 46 X0D25 (io), 47 X0D24 (io), 48 X0D23 (io), 49 X0D22 (io), 50 X0D21 (io), 51 X0D20 (io), 52 VDD (power) "Digital tile power", 53 VDDIO (power) "Digital I/O power", 54 X0D19 (io), 55 X0D18 (io), 56 X0D17 (io), 57 X0D16 (io), 58 X0D15 (io), 59 X0D14 (io), 60 VDDIO (power) "Digital I/O power", 61 VDD (power) "Digital tile power", 62 X0D13 (io), 63 X0D12 (io), 64 X0D11 (io), 65 GND (power) "Digital ground"

## XS1-L8A-64-LQ64-I4
designator U?
8 Core XS1-L 32-bit Multicore Microcontroller, 36 I/O, -40 to 85 degC, 64-Pin LQFP, Pb-Free, Tray; PartNumber: XS1-L8A-64-LQ64-I4; Cores/Tiles: 8/1; I/O: 36; RAM: 64 kB; Speed Grade: 400 MIPS; DatasheetVersion: Rev. X4912; PackageReference: LQFP-64; PackageDescription: 64-Pin Low Profile Quad Flat Pack, Body 10 x 10 mm, Pitch 0.5 mm; Supplier 1: Digi-Key; Supplier Part Number 1: 880-1001-ND; Packing: Tray; Temperature Range: -40 to 85 degC; Mounting Technology: Surface Mount; Code_JEDEC: MS-026; ComponentLink1Description: Manufacturer URL; ComponentLink1URL: http://www.xmos.com/; ComponentLink2Description: Datasheet; ComponentLink2URL: https://www.xmos.com/en/download/public/XS1-L8A-64-LQ64-Datasheet%28X4912G%29.pdf; ComponentLink3Description: Package Specification; ComponentLink3URL: https://www.xmos.com/zh/download/public/XS1-L6A-64-LQ64-Datasheet%28X9194F%29.pdf
footprint XMOS-LQFP-64_V (LQFP, 64-Leads, Body 10x10mm, Pitch 0.5mm, Thermal Pad 5.2x5.2mm)
pins: 1 X0D10 (io), 2 X0D09 (io), 3 X0D08 (io), 4 VDD (power) "Digital tile power", 5 X0D07 (io), 6 VDDIO (power) "Digital I/O power", 7 X0D06 (io), 8 RST_N (in) "Global reset input", 9 CLK (in) "PLL reference clock", 10 X0D05 (io), 11 X0D04 (io), 12 X0D03 (io), 13 VDD (power) "Digital tile power", 14 X0D02 (io), 15 X0D01 (io), 16 X0D00 (io), 17 DEBUG_N (io) "Multi-chip debug", 18 VDDIO (power) "Digital I/O power", 19 PLL_AGND (power) "Analog ground for PLL", 20 PLL_AVDD (power) "Analog PLL power", 21 VDD (power) "Digital tile power", 22 MODE[0] (in) "Boot mode select", 23 MODE[1] (in) "Boot mode select", 24 MODE[2] (in) "Boot mode select", 25 MODE[3] (in) "Boot mode select", 26 TRST_N (in) "Test reset input", 27 TMS (in) "Test mode select", 28 VDD (power) "Digital tile power", 29 TCK (in) "Test clock", 30 TDI (in) "Test data input", 31 TDO (out) "Test data output", 32 VDDIO (power) "Digital I/O power", 33 X0D35 (io), 34 X0D34 (io), 35 X0D33 (io), 36 X0D32 (io), 37 VDD (power) "Digital tile power", 38 X0D39 (io), 39 X0D38 (io), 40 VDDIO (power) "Digital I/O power", 41 X0D37 (io), 42 X0D36 (io), 43 VDD (power) "Digital tile power", 44 X0D27 (io), 45 X0D26 (io), 46 X0D25 (io), 47 X0D24 (io), 48 X0D23 (io), 49 X0D22 (io), 50 X0D21 (io), 51 X0D20 (io), 52 VDD (power) "Digital tile power", 53 VDDIO (power) "Digital I/O power", 54 X0D19 (io), 55 X0D18 (io), 56 X0D17 (io), 57 X0D16 (io), 58 X0D15 (io), 59 X0D14 (io), 60 VDDIO (power) "Digital I/O power", 61 VDD (power) "Digital tile power", 62 X0D13 (io), 63 X0D12 (io), 64 X0D11 (io), 65 GND (power) "Digital ground"

## XS1-L8A-64-LQ64-I5
designator U?
8 Core XS1-L 32-bit Multicore Microcontroller, 36 I/O, -40 to 85 degC, 64-Pin LQFP, Pb-Free, Tray; PartNumber: XS1-L8A-64-LQ64-I5; Cores/Tiles: 8/1; I/O: 36; RAM: 64 kB; Speed Grade: 500 MIPS; DatasheetVersion: Rev. X4912; PackageReference: LQFP-64; PackageDescription: 64-Pin Low Profile Quad Flat Pack, Body 10 x 10 mm, Pitch 0.5 mm; Supplier 1: Digi-Key; Supplier Part Number 1: 880-1030-ND; Packing: Tray; Temperature Range: -40 to 85 degC; Mounting Technology: Surface Mount; Code_JEDEC: MS-026; ComponentLink1Description: Manufacturer URL; ComponentLink1URL: http://www.xmos.com/; ComponentLink2Description: Datasheet; ComponentLink2URL: https://www.xmos.com/en/download/public/XS1-L8A-64-LQ64-Datasheet%28X4912G%29.pdf; ComponentLink3Description: Package Specification; ComponentLink3URL: https://www.xmos.com/zh/download/public/XS1-L6A-64-LQ64-Datasheet%28X9194F%29.pdf
footprint XMOS-LQFP-64_V (LQFP, 64-Leads, Body 10x10mm, Pitch 0.5mm, Thermal Pad 5.2x5.2mm)
pins: 1 X0D10 (io), 2 X0D09 (io), 3 X0D08 (io), 4 VDD (power) "Digital tile power", 5 X0D07 (io), 6 VDDIO (power) "Digital I/O power", 7 X0D06 (io), 8 RST_N (in) "Global reset input", 9 CLK (in) "PLL reference clock", 10 X0D05 (io), 11 X0D04 (io), 12 X0D03 (io), 13 VDD (power) "Digital tile power", 14 X0D02 (io), 15 X0D01 (io), 16 X0D00 (io), 17 DEBUG_N (io) "Multi-chip debug", 18 VDDIO (power) "Digital I/O power", 19 PLL_AGND (power) "Analog ground for PLL", 20 PLL_AVDD (power) "Analog PLL power", 21 VDD (power) "Digital tile power", 22 MODE[0] (in) "Boot mode select", 23 MODE[1] (in) "Boot mode select", 24 MODE[2] (in) "Boot mode select", 25 MODE[3] (in) "Boot mode select", 26 TRST_N (in) "Test reset input", 27 TMS (in) "Test mode select", 28 VDD (power) "Digital tile power", 29 TCK (in) "Test clock", 30 TDI (in) "Test data input", 31 TDO (out) "Test data output", 32 VDDIO (power) "Digital I/O power", 33 X0D35 (io), 34 X0D34 (io), 35 X0D33 (io), 36 X0D32 (io), 37 VDD (power) "Digital tile power", 38 X0D39 (io), 39 X0D38 (io), 40 VDDIO (power) "Digital I/O power", 41 X0D37 (io), 42 X0D36 (io), 43 VDD (power) "Digital tile power", 44 X0D27 (io), 45 X0D26 (io), 46 X0D25 (io), 47 X0D24 (io), 48 X0D23 (io), 49 X0D22 (io), 50 X0D21 (io), 51 X0D20 (io), 52 VDD (power) "Digital tile power", 53 VDDIO (power) "Digital I/O power", 54 X0D19 (io), 55 X0D18 (io), 56 X0D17 (io), 57 X0D16 (io), 58 X0D15 (io), 59 X0D14 (io), 60 VDDIO (power) "Digital I/O power", 61 VDD (power) "Digital tile power", 62 X0D13 (io), 63 X0D12 (io), 64 X0D11 (io), 65 GND (power) "Digital ground"

## XS1-L8A-64-TQ48-C4
designator U?
8 Core XS1-L 32-bit Multicore Microcontroller, 28 I/O, 0 to 70 degC, 48-Pin TQFP, Pb-Free, Tray; PartNumber: XS1-L8A-64-TQ48-C4; Cores/Tiles: 8/1; I/O: 28; RAM: 64 kB; Speed Grade: 400 MIPS; DatasheetVersion: Rev. X9681; PackageReference: TQFP-48; PackageDescription: 48-Pin Thin Quad Flat Pack, Body 7 x 7 mm, Pitch 0.5 mm; Supplier 1: Digi-Key; Supplier Part Number 1: 880-1035-ND; Packing: Tray; Temperature Range: 0 to 70 degC; Mounting Technology: Surface Mount; Code_JEDEC: MS-026; ComponentLink1Description: Manufacturer URL; ComponentLink1URL: http://www.xmos.com/; ComponentLink2Description: Datasheet; ComponentLink2URL: https://www.xmos.com/en/download/public/XS1-L8A-64-TQ48-Datasheet%28X9681G%29.pdf; ComponentLink3Description: Package Specification; ComponentLink3URL: https://www.xmos.com/en/download/public/XS1-L8A-64-TQ48-Datasheet%28X9681G%29.pdf
footprint XMOS-TQFP-48_V (TQFP, 48-Leads, Body 7x7mm, Pitch 0.5mm, Thermal Pad 3.75x3.75mm)
pins: 1 X0D12 (io), 2 X0D11 (io), 3 X0D10 (io), 4 X0D52 (io), 5 X0D53 (io), 6 X0D54 (io), 7 VDDIO (power) "Digital I/O power", 8 RST_N (in) "Global reset input", 9 CLK (in) "PLL reference clock", 10 VDD (power) "Digital tile power", 11 X0D55 (io), 12 X0D01 (io), 13 X0D00 (io), 14 VDDIO (power) "Digital I/O power", 15 PLL_AVDD (power) "Analog PLL power", 16 MODE[0] (in) "Boot mode select", 17 MODE[1] (in) "Boot mode select", 18 MODE[2] (in) "Boot mode select", 19 MODE[3] (in) "Boot mode select", 20 TRST_N (in) "Test reset input", 21 TMS (in) "Test mode select", 22 VDD (power) "Digital tile power", 23 TCK (in) "Test clock", 24 TDI (in) "Test data input", 25 TDO (out) "Test data output", 26 X0D35 (io), 27 X0D34 (io), 28 X0D39 (io), 29 X0D38 (io), 30 VDDIO (power) "Digital I/O power", 31 X0D37 (io), 32 X0D36 (io), 33 VDD (power) "Digital tile power", 34 X0D25 (io), 35 X0D24 (io), 36 X0D23 (io), 37 X0D22 (io), 38 X0D21 (io), 39 X0D20 (io), 40 VDDIO (power) "Digital I/O power", 41 X0D19 (io), 42 X0D18 (io), 43 X0D17 (io), 44 X0D16 (io), 45 X0D15 (io), 46 X0D14 (io), 47 VDD (power) "Digital tile power", 48 X0D13 (io), 49 GND (power) "Digital ground"

## XS1-L8A-64-TQ48-C5
designator U?
8 Core XS1-L 32-bit Multicore Microcontroller, 28 I/O, 0 to 70 degC, 48-Pin TQFP, Pb-Free, Tray; PartNumber: XS1-L8A-64-TQ48-C5; Cores/Tiles: 8/1; I/O: 28; RAM: 64 kB; Speed Grade: 500 MIPS; DatasheetVersion: Rev. X9681; PackageReference: TQFP-48; PackageDescription: 48-Pin Thin Quad Flat Pack, Body 7 x 7 mm, Pitch 0.5 mm; Supplier 1: Digi-Key; Supplier Part Number 1: 880-1034-ND; Supplier 2: Farnell; Supplier Part Number 2: 2356336; Supplier 3: Newark; Supplier Part Number 3: 07X2009; Packing: Tray; Temperature Range: 0 to 70 degC; Mounting Technology: Surface Mount; Code_JEDEC: MS-026; ComponentLink1Description: Manufacturer URL; ComponentLink1URL: http://www.xmos.com/; ComponentLink2Description: Datasheet; ComponentLink2URL: https://www.xmos.com/en/download/public/XS1-L8A-64-TQ48-Datasheet%28X9681G%29.pdf; ComponentLink3Description: Package Specification; ComponentLink3URL: https://www.xmos.com/en/download/public/XS1-L8A-64-TQ48-Datasheet%28X9681G%29.pdf
footprint XMOS-TQFP-48_V (TQFP, 48-Leads, Body 7x7mm, Pitch 0.5mm, Thermal Pad 3.75x3.75mm)
pins: 1 X0D12 (io), 2 X0D11 (io), 3 X0D10 (io), 4 X0D52 (io), 5 X0D53 (io), 6 X0D54 (io), 7 VDDIO (power) "Digital I/O power", 8 RST_N (in) "Global reset input", 9 CLK (in) "PLL reference clock", 10 VDD (power) "Digital tile power", 11 X0D55 (io), 12 X0D01 (io), 13 X0D00 (io), 14 VDDIO (power) "Digital I/O power", 15 PLL_AVDD (power) "Analog PLL power", 16 MODE[0] (in) "Boot mode select", 17 MODE[1] (in) "Boot mode select", 18 MODE[2] (in) "Boot mode select", 19 MODE[3] (in) "Boot mode select", 20 TRST_N (in) "Test reset input", 21 TMS (in) "Test mode select", 22 VDD (power) "Digital tile power", 23 TCK (in) "Test clock", 24 TDI (in) "Test data input", 25 TDO (out) "Test data output", 26 X0D35 (io), 27 X0D34 (io), 28 X0D39 (io), 29 X0D38 (io), 30 VDDIO (power) "Digital I/O power", 31 X0D37 (io), 32 X0D36 (io), 33 VDD (power) "Digital tile power", 34 X0D25 (io), 35 X0D24 (io), 36 X0D23 (io), 37 X0D22 (io), 38 X0D21 (io), 39 X0D20 (io), 40 VDDIO (power) "Digital I/O power", 41 X0D19 (io), 42 X0D18 (io), 43 X0D17 (io), 44 X0D16 (io), 45 X0D15 (io), 46 X0D14 (io), 47 VDD (power) "Digital tile power", 48 X0D13 (io), 49 GND (power) "Digital ground"

## XS1-L8A-64-TQ48-I4
designator U?
8 Core XS1-L 32-bit Multicore Microcontroller, 28 I/O, -40 to 85 degC, 48-Pin TQFP, Pb-Free, Tray; PartNumber: XS1-L8A-64-TQ48-I4; Cores/Tiles: 8/1; I/O: 28; RAM: 64 kB; Speed Grade: 400 MIPS; DatasheetVersion: Rev. X9681; PackageReference: TQFP-48; PackageDescription: 48-Pin Thin Quad Flat Pack, Body 7 x 7 mm, Pitch 0.5 mm; Supplier 1: Digi-Key; Supplier Part Number 1: XS1-L8A-64-TQ48-I4-ND; Packing: Tray; Temperature Range: -40 to 85 degC; Mounting Technology: Surface Mount; Code_JEDEC: MS-026; ComponentLink1Description: Manufacturer URL; ComponentLink1URL: http://www.xmos.com/; ComponentLink2Description: Datasheet; ComponentLink2URL: https://www.xmos.com/en/download/public/XS1-L8A-64-TQ48-Datasheet%28X9681G%29.pdf; ComponentLink3Description: Package Specification; ComponentLink3URL: https://www.xmos.com/en/download/public/XS1-L8A-64-TQ48-Datasheet%28X9681G%29.pdf
footprint XMOS-TQFP-48_V (TQFP, 48-Leads, Body 7x7mm, Pitch 0.5mm, Thermal Pad 3.75x3.75mm)
pins: 1 X0D12 (io), 2 X0D11 (io), 3 X0D10 (io), 4 X0D52 (io), 5 X0D53 (io), 6 X0D54 (io), 7 VDDIO (power) "Digital I/O power", 8 RST_N (in) "Global reset input", 9 CLK (in) "PLL reference clock", 10 VDD (power) "Digital tile power", 11 X0D55 (io), 12 X0D01 (io), 13 X0D00 (io), 14 VDDIO (power) "Digital I/O power", 15 PLL_AVDD (power) "Analog PLL power", 16 MODE[0] (in) "Boot mode select", 17 MODE[1] (in) "Boot mode select", 18 MODE[2] (in) "Boot mode select", 19 MODE[3] (in) "Boot mode select", 20 TRST_N (in) "Test reset input", 21 TMS (in) "Test mode select", 22 VDD (power) "Digital tile power", 23 TCK (in) "Test clock", 24 TDI (in) "Test data input", 25 TDO (out) "Test data output", 26 X0D35 (io), 27 X0D34 (io), 28 X0D39 (io), 29 X0D38 (io), 30 VDDIO (power) "Digital I/O power", 31 X0D37 (io), 32 X0D36 (io), 33 VDD (power) "Digital tile power", 34 X0D25 (io), 35 X0D24 (io), 36 X0D23 (io), 37 X0D22 (io), 38 X0D21 (io), 39 X0D20 (io), 40 VDDIO (power) "Digital I/O power", 41 X0D19 (io), 42 X0D18 (io), 43 X0D17 (io), 44 X0D16 (io), 45 X0D15 (io), 46 X0D14 (io), 47 VDD (power) "Digital tile power", 48 X0D13 (io), 49 GND (power) "Digital ground"

## XS1-L8A-64-TQ48-I5
designator U?
8 Core XS1-L 32-bit Multicore Microcontroller, 28 I/O, -40 to 85 degC, 48-Pin TQFP, Pb-Free, Tray; PartNumber: XS1-L8A-64-TQ48-I5; Cores/Tiles: 8/1; I/O: 28; RAM: 64 kB; Speed Grade: 500 MIPS; DatasheetVersion: Rev. X9681; PackageReference: TQFP-48; PackageDescription: 48-Pin Thin Quad Flat Pack, Body 7 x 7 mm, Pitch 0.5 mm; Supplier 1: Digi-Key; Supplier Part Number 1: XS1-L8A-64-TQ48-I5-ND; Packing: Tray; Temperature Range: -40 to 85 degC; Mounting Technology: Surface Mount; Code_JEDEC: MS-026; ComponentLink1Description: Manufacturer URL; ComponentLink1URL: http://www.xmos.com/; ComponentLink2Description: Datasheet; ComponentLink2URL: https://www.xmos.com/en/download/public/XS1-L8A-64-TQ48-Datasheet%28X9681G%29.pdf; ComponentLink3Description: Package Specification; ComponentLink3URL: https://www.xmos.com/en/download/public/XS1-L8A-64-TQ48-Datasheet%28X9681G%29.pdf
footprint XMOS-TQFP-48_V (TQFP, 48-Leads, Body 7x7mm, Pitch 0.5mm, Thermal Pad 3.75x3.75mm)
pins: 1 X0D12 (io), 2 X0D11 (io), 3 X0D10 (io), 4 X0D52 (io), 5 X0D53 (io), 6 X0D54 (io), 7 VDDIO (power) "Digital I/O power", 8 RST_N (in) "Global reset input", 9 CLK (in) "PLL reference clock", 10 VDD (power) "Digital tile power", 11 X0D55 (io), 12 X0D01 (io), 13 X0D00 (io), 14 VDDIO (power) "Digital I/O power", 15 PLL_AVDD (power) "Analog PLL power", 16 MODE[0] (in) "Boot mode select", 17 MODE[1] (in) "Boot mode select", 18 MODE[2] (in) "Boot mode select", 19 MODE[3] (in) "Boot mode select", 20 TRST_N (in) "Test reset input", 21 TMS (in) "Test mode select", 22 VDD (power) "Digital tile power", 23 TCK (in) "Test clock", 24 TDI (in) "Test data input", 25 TDO (out) "Test data output", 26 X0D35 (io), 27 X0D34 (io), 28 X0D39 (io), 29 X0D38 (io), 30 VDDIO (power) "Digital I/O power", 31 X0D37 (io), 32 X0D36 (io), 33 VDD (power) "Digital tile power", 34 X0D25 (io), 35 X0D24 (io), 36 X0D23 (io), 37 X0D22 (io), 38 X0D21 (io), 39 X0D20 (io), 40 VDDIO (power) "Digital I/O power", 41 X0D19 (io), 42 X0D18 (io), 43 X0D17 (io), 44 X0D16 (io), 45 X0D15 (io), 46 X0D14 (io), 47 VDD (power) "Digital tile power", 48 X0D13 (io), 49 GND (power) "Digital ground"

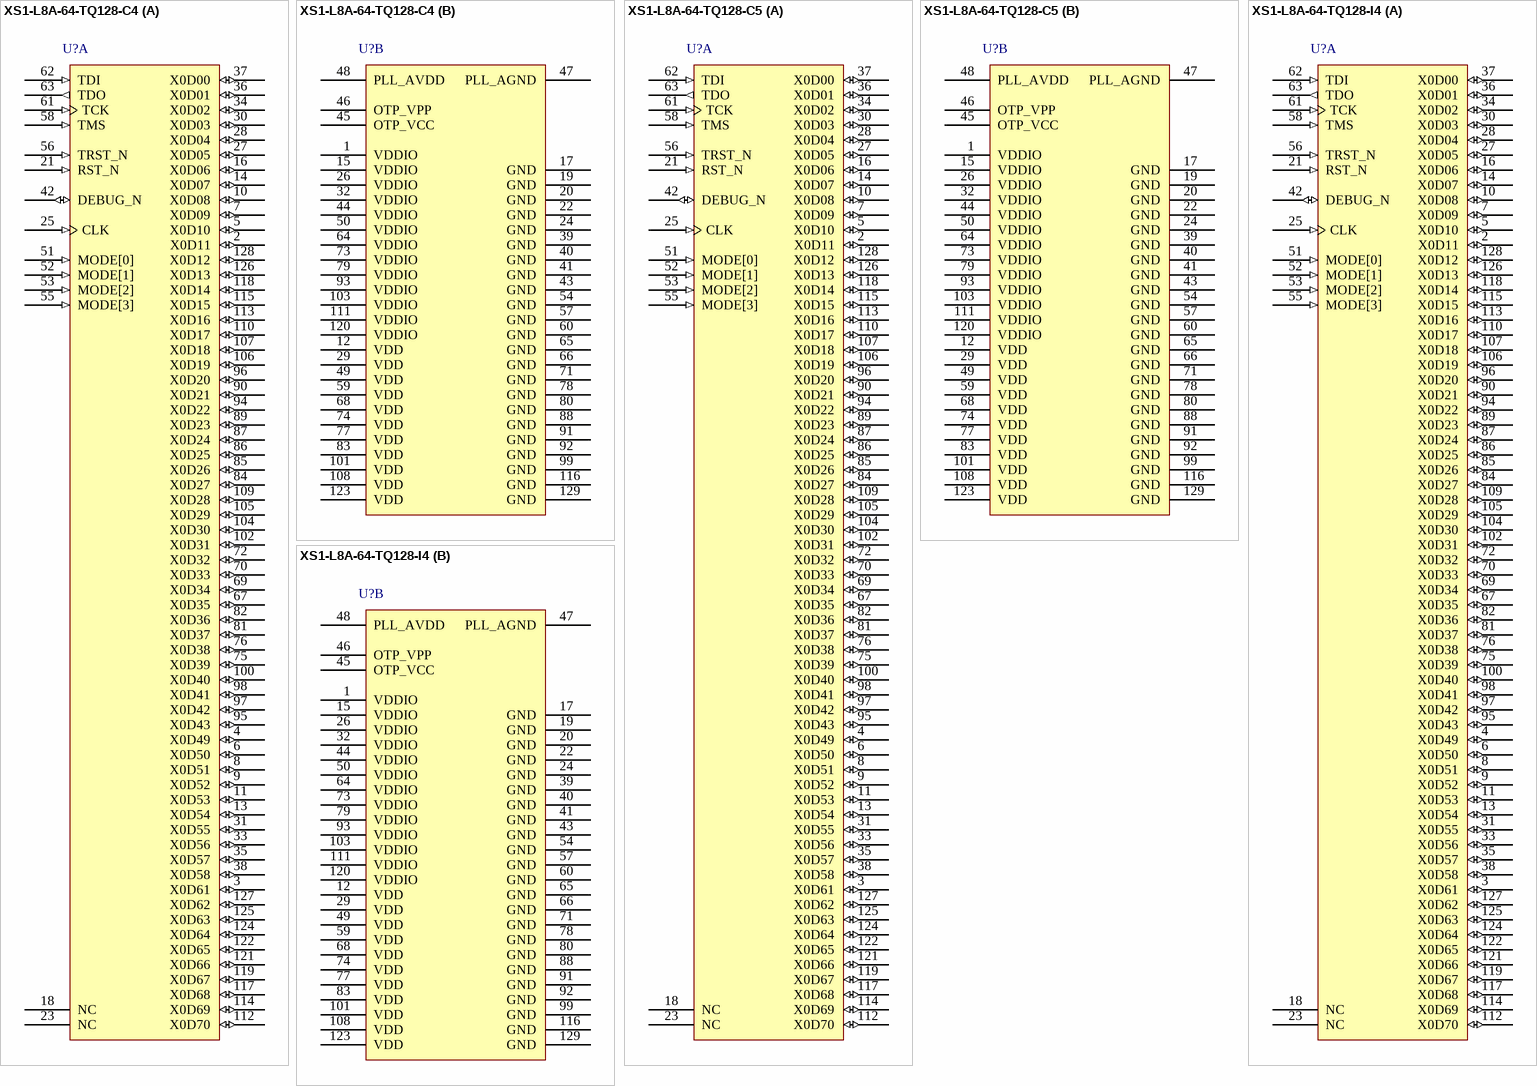
[diagram p6: symbols XS1-L8A-64-TQ128-C4 to XS1-L8A-64-TQ128-I4]